# Altium footprint library TDII_Lib.PcbLib: 20 footprints (part 2 of 2)
Each footprint in its own frame and in the unit in brackets; x right, y up, seen from the top. Pads: shape width x height; smd on the part's side, far side on the other; paste and mask are expansions set on the pad; w line width, h text height; cw(c..) or ccw(c..) is an arc to the next point about the centre after c.
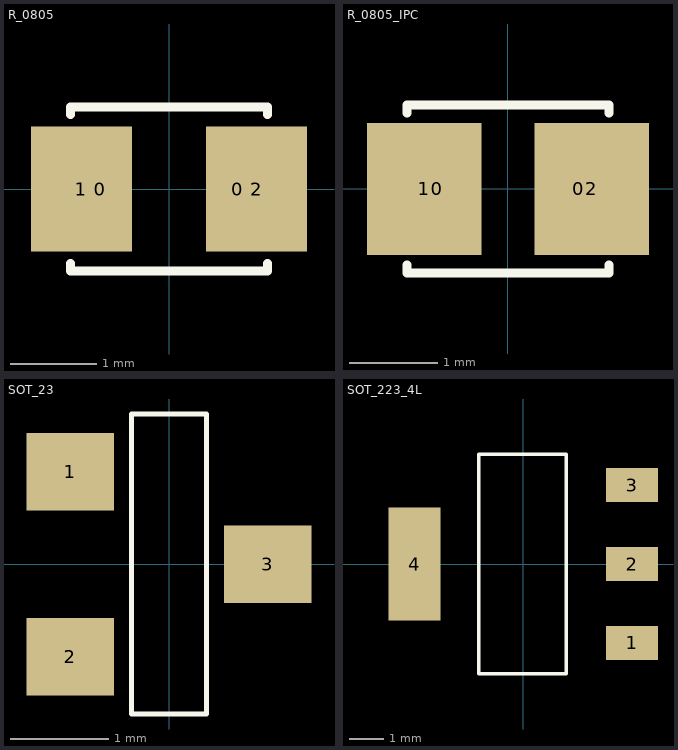
[diagram p1: the footprints below, top view; thin cyan lines are the x and y axes]

## R_0805 [mm]
height 0.6
pads (4):
  rect 0.4x1.25 on Mech3: 0(-0.8,0) 0(0.8,0)
  rect 1.175x1.45 smd: 1(-1.016,0) 2(1.016,0)
Top Overlay:
  lines w0.102: -1.143,-0.864 -1.143,-0.953 1.143,-0.953 1.143,-0.864 ; -1.143,0.864 -1.143,0.953 1.143,0.953 1.143,0.864

## R_0805_IPC [mm]
height 0.6
pads (4):
  rect 0.4x1.25 on Mech3: 0(-0.8,0) 0(0.8,0)
  rect 1.3x1.5 smd: 1(-0.95,0) 2(0.95,0)
Top Overlay:
  lines w0.102: -1.143,-0.864 -1.143,-0.953 1.143,-0.953 1.143,-0.864 ; -1.143,0.864 -1.143,0.953 1.143,0.953 1.143,0.864

## SOT_23 [mil]
pads (3):
  rect 35x31 smd: 1(-39.5,37) 2(-39.5,-37) 3(39.5,0)
Top Overlay:
  lines w2: -15,-60 -15,60 15,60 15,-60 -15,-60

## SOT_223_4L [mil]
pads (4):
  rect 59x39 smd: 1(124,-90) 2(124,0) 3(124,90)
  rect 59x129 smd: 4(-124,0)
Top Overlay:
  lines w4: -51,-125 49,-125 49,125 -51,125 -51,-125